# EAGLE library part STUSB4500QTR (library STUSB4500QTR)
USB Interface IC CONDITIONING & INTERFACES Source: Datasheet <https://www.st.com/resource/en/datasheet/stusb4500.pdf>
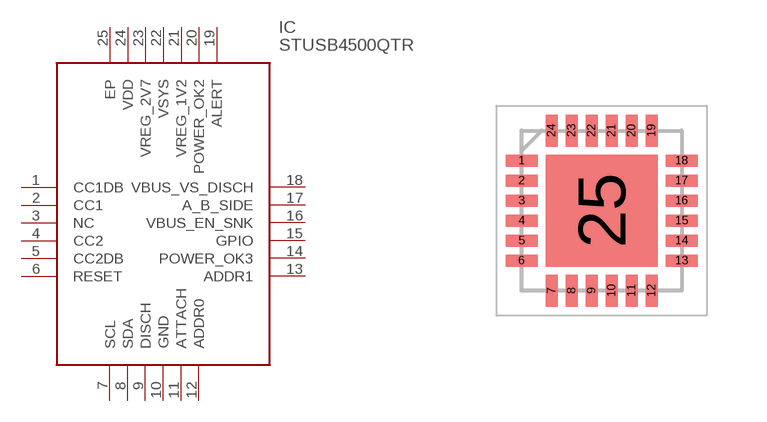
[diagram p0: symbol with the pads of QFN50P400X400X100-25N; footprint QFN50P400X400X100-25N]

Designator prefix IC

## STUSB4500QTR (Description: USB Interface IC CONDITIONING & INTERFACES; Height: 1mm; Manufacturer_Name: STMicroelectronics; Manufacturer_Part_Number: STUSB4500QTR; Mouser_Part_Number: 511-STUSB4500QTR; Mouser_Price-Stock: https://www.mouser.co.uk/ProductDetail/STMicroelectronics/STUSB4500QTR?qs=wUXugUrL1qyQbYMSzG1ujg%3D%3D)  [QFN50P400X400X100-25N]
1  CC1DB
2  CC1
3  NC  nc
4  CC2
5  CC2DB
6  RESET
7  SCL
8  SDA
9  DISCH
10  GND
11  ATTACH
12  ADDR0
13  ADDR1
14  POWER_OK3
15  GPIO
16  VBUS_EN_SNK
17  A_B_SIDE
18  VBUS_VS_DISCH
19  ALERT
20  POWER_OK2
21  VREG_1V2
22  VSYS
23  VREG_2V7
24  VDD
25  EP

## Footprint QFN50P400X400X100-25N (pad centres in mm)
QFN24-1
smd 0.8 x 0.3: 1 -2,1.25; 2 -2,0.75; 3 -2,0.25; 4 -2,-0.25; 5 -2,-0.75; 6 -2,-1.25; 13 2,-1.25; 14 2,-0.75; 15 2,-0.25; 16 2,0.25; 17 2,0.75; 18 2,1.25
smd 0.3 x 0.8: 7 -1.25,-2; 8 -0.75,-2; 9 -0.25,-2; 10 0.25,-2; 11 0.75,-2; 12 1.25,-2; 19 1.25,2; 20 0.75,2; 21 0.25,2; 22 -0.25,2; 23 -0.75,2; 24 -1.25,2
smd 2.8 x 2.8: 25 0,0